# EAGLE library part PA6H-PROTO (library gc-1000-gps custom lib)
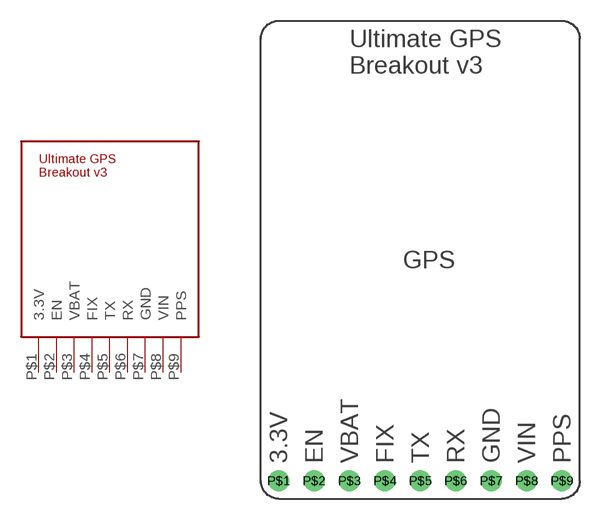
[diagram p1: symbol with the pads of PA6H; footprint PA6H]

Designator prefix -

## PA6H-PROTO  [PA6H]
P$1  3.3V
P$2  EN
P$3  VBAT
P$4  FIX
P$5  TX
P$6  RX
P$7  GND
P$8  VIN
P$9  PPS

## Footprint PA6H (pad centres in mm)
drill 1: P$1 -5.08,0; P$2 -2.54,0; P$3 0,0; P$4 2.54,0; P$5 5.08,0; P$6 7.62,0; P$7 10.16,0; P$8 12.7,0; P$9 15.24,0